# Altium schematic symbol library 691364300003.SchLib: 1 symbol
Pins are listed as number, name and electrical type; pins without a type are passive.

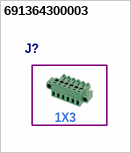
[diagram p0: symbol 691364300003]

## 691364300003
designator J?  (value not drawn)
691364300003
text: 1X3